# EAGLE library part OLIMEX_CONNECTORS_HDMI-MC34931 (library A10-A20-OLINUXINO-MICRO-4GB_Rev_D)
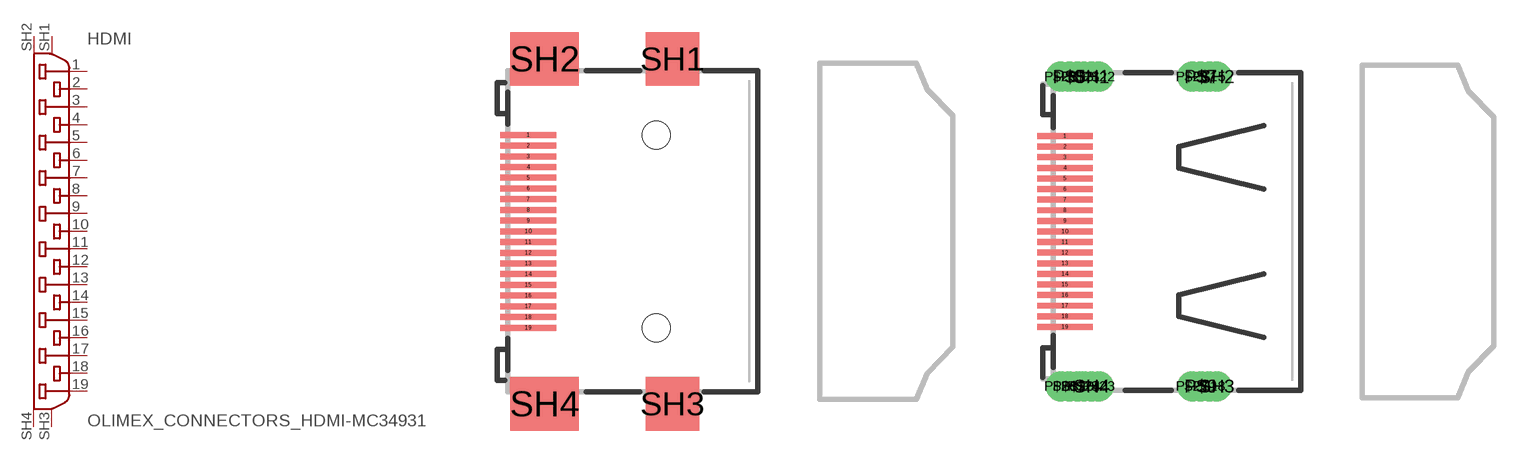
[diagram p1: symbol with the pads of OLIMEX_CONNECTORS_HDMI-MC34931; footprints OLIMEX_CONNECTORS_HDMI-MC34931, OLIMEX_CONNECTORS_HDMI-SWM-19]

Designator prefix HDMI

## OLIMEX_CONNECTORS_HDMI-MC34931_1428259_  [OLIMEX_CONNECTORS_HDMI-MC34931]
1  1
2  2
3  3
4  4
5  5
6  6
7  7
8  8
9  9
10  10
11  11
12  12
13  13
14  14
15  15
16  16
17  17
18  18
19  19
SH1  20  in
SH2  21  in
SH3  22  in
SH4  23  in

## OLIMEX_CONNECTORS_HDMI-MC34931HDMI-SWM-19  [OLIMEX_CONNECTORS_HDMI-SWM-19]
Pads as for OLIMEX_CONNECTORS_HDMI-MC34931

## Footprint OLIMEX_CONNECTORS_HDMI-MC34931 (pad centres in mm)
HDMI Receptacle SMT type without flange
smd 2.6 x 0.28: 1 1.3,4.5; 2 1.3,4; 3 1.3,3.5; 4 1.3,3; 5 1.3,2.5; 6 1.3,2; 7 1.3,1.5; 8 1.3,1; 9 1.3,0.5; 10 1.3,0; 11 1.3,-0.5; 12 1.3,-1; 13 1.3,-1.5; 14 1.3,-2; 15 1.3,-2.5; 16 1.3,-3; 17 1.3,-3.5; 18 1.3,-4; 19 1.3,-4.5
smd 2.5 x 2.5: SH1 8.02,8.05; SH3 8.02,-8.05
smd 3.2 x 2.5: SH2 2.06,8.05; SH4 2.06,-8.05
hole 1.3 at 7.26,-4.5
hole 1.3 at 7.26,4.5

## Footprint OLIMEX_CONNECTORS_HDMI-SWM-19 (pad centres in mm)
smd 2.6 x 0.28: 1 1.3,4.5; 2 1.3,4; 3 1.3,3.5; 4 1.3,3; 5 1.3,2.5; 6 1.3,2; 7 1.3,1.5; 8 1.3,1; 9 1.3,0.5; 10 1.3,0; 11 1.3,-0.5; 12 1.3,-1; 13 1.3,-1.5; 14 1.3,-2; 15 1.3,-2.5; 16 1.3,-3; 17 1.3,-3.5; 18 1.3,-4; 19 1.3,-4.5
drill 0.9: P$5 1.5,7.3; P$7 7.7,7.3; P$9 7.7,-7.3; P$11 1.5,-7.3; P$13 1.9,7.3; P$15 8.1,7.3; P$18 8.1,-7.3; P$20 1.9,-7.3; P$21 2.2,7.3; P$22 2.9,7.3; P$23 2.9,-7.3; P$24 2.2,-7.3; P$25 1.1,7.3; P$26 1.1,-7.3; P$27 7.3,-7.3; P$28 7.3,7.3; SH1 2.55,7.3; SH2 8.45,7.3; SH3 8.45,-7.3; SH4 2.55,-7.3